# EAGLE library part TMS9918 (library ML497A)
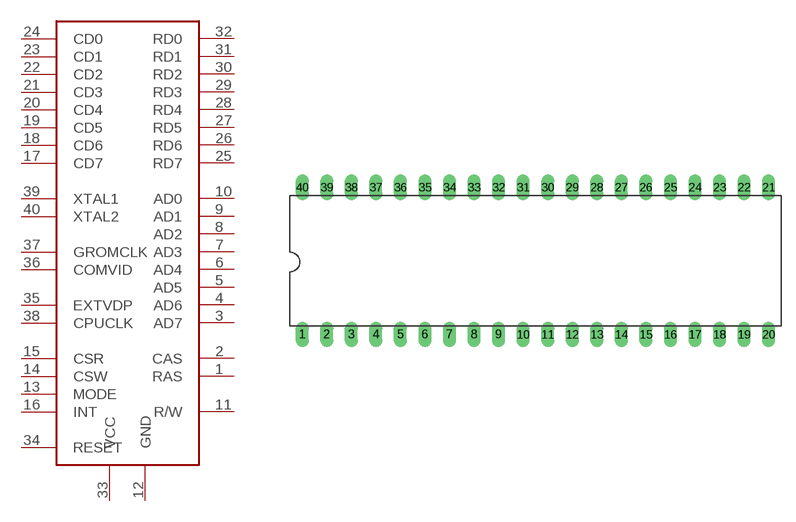
[diagram p7: symbol with the pads of DIL-40; footprint DIL-40]

Designator prefix -

## TMS9918  [DIL-40]
1  RAS
2  CAS
3  AD7
4  AD6
5  AD5
6  AD4
7  AD3
8  AD2
9  AD1
10  AD0
11  R/W
12  GND
13  MODE
14  CSW
15  CSR
16  INT
17  CD7
18  CD6
19  CD5
20  CD4
21  CD3
22  CD2
23  CD1
24  CD0
25  RD7
26  RD6
27  RD5
28  RD4
29  RD3
30  RD2
31  RD1
32  RD0
33  VCC
34  RESET
35  EXTVDP
36  COMVID
37  GROMCLK
38  CPUCLK
39  XTAL1
40  XTAL2

## Footprint DIL-40 (pad centres in mm)
drill 0.813 long: 1 -22.86,-7.62; 2 -20.32,-7.62; 3 -17.78,-7.62; 4 -15.24,-7.62; 5 -12.7,-7.62; 6 -10.16,-7.62; 7 -7.62,-7.62; 8 -5.08,-7.62; 9 -2.54,-7.62; 10 0,-7.62; 11 2.54,-7.62; 12 5.08,-7.62; 13 7.62,-7.62; 14 10.16,-7.62; 15 12.7,-7.62; 16 15.24,-7.62; 17 17.78,-7.62; 18 20.32,-7.62; 19 22.86,-7.62; 20 25.4,-7.62; 21 25.4,7.62; 22 22.86,7.62; 23 20.32,7.62; 24 17.78,7.62; 25 15.24,7.62; 26 12.7,7.62; 27 10.16,7.62; 28 7.62,7.62; 29 5.08,7.62; 30 2.54,7.62; 31 0,7.62; 32 -2.54,7.62; 33 -5.08,7.62; 34 -7.62,7.62; 35 -10.16,7.62; 36 -12.7,7.62; 37 -15.24,7.62; 38 -17.78,7.62; 39 -20.32,7.62; 40 -22.86,7.62